# Altium schematic symbol library 2202316.SchLib: 1 symbol
Pins are listed as number, name and electrical type; pins without a type are passive.

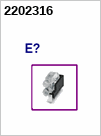
[diagram p0: symbol 2202316]

## 2202316
designator E?  (value not drawn)